# EAGLE library part ADXL345 (library adxl3450)
3-Axis, ±2 g/±4 g/±8 g/±16 g Digital Accelerometer
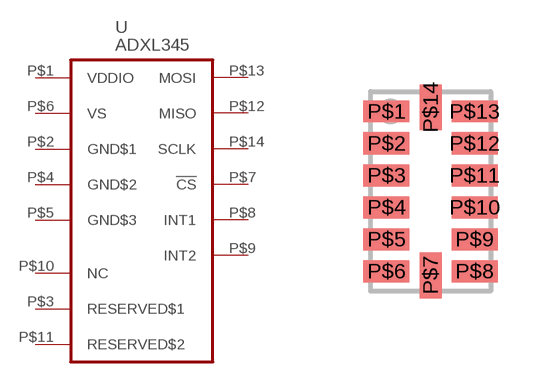
[diagram p0: symbol with the pads of LGA14; footprint LGA14]

Designator prefix -

## ADXL345  [LGA14]
P$1  VDDIO  pwr
P$2  GND$1  pwr
P$3  RESERVED$1
P$4  GND$2  pwr
P$5  GND$3  pwr
P$6  VS  pwr
P$7  !CS  in
P$8  INT1  out
P$9  INT2  out
P$10  NC
P$11  RESERVED$2
P$12  MISO  out
P$13  MOSI  in
P$14  SCLK  in

## Footprint LGA14 (pad centres in mm)
Land Grid Array (LGA-14)
smd 1.15 x 0.55: P$1 -1.1,2; P$2 -1.1,1.2; P$3 -1.1,0.4; P$4 -1.1,-0.4; P$5 -1.1,-1.2; P$6 -1.1,-2; P$8 1.1,-2; P$9 1.1,-1.2; P$10 1.1,-0.4; P$11 1.1,0.4; P$12 1.1,1.2; P$13 1.1,2
smd 0.55 x 1.15: P$7 0,-2.1; P$14 0,2.1